# EAGLE library part MSTBA-06 (library con-phoenix-500)
COMBICON MSTBA - 1757514
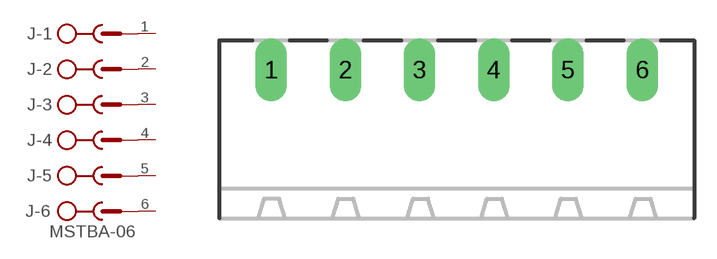
[diagram p16: symbol with the pads of MSTBA-06; footprint MSTBA-06]

Designator prefix J; gates -1=SK -2=SK -3=SK -4=SK -5=SK -6=SK+V

## MSTBA-06  [MSTBA-06]
1  -1:SK  pas
2  -2:SK  pas
3  -3:SK  pas
4  -4:SK  pas
5  -5:SK  pas
6  -6:SK  pas

## Footprint MSTBA-06 (pad centres in mm)
COMBICON MSTBA 5.00mm
drill 1.422 long: 1 -12.5,0; 2 -7.5,0; 3 -2.5,0; 4 2.5,0; 5 7.5,0; 6 12.5,0